# Altium footprint library QFP.PcbLib: 4 footprints
Each footprint in its own frame and in the unit in brackets; x right, y up, seen from the top. Pads: shape width x height; smd on the part's side, far side on the other; paste and mask are expansions set on the pad; w line width, h text height; cw(c..) or ccw(c..) is an arc to the next point about the centre after c.
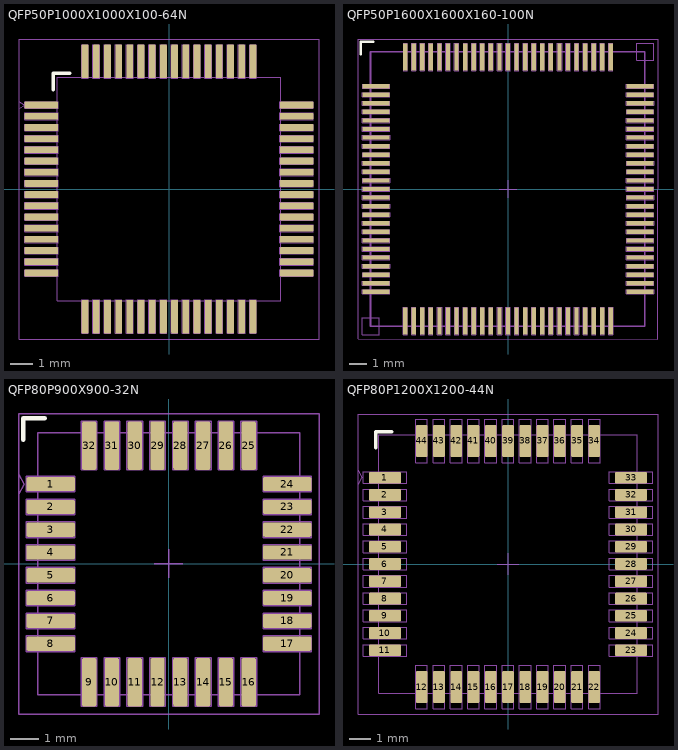
[diagram p0: the footprints below, top view; thin cyan lines are the x and y axes]

## QFP50P1000X1000X100-64N [mm]
height 1.2
pads (64):
  rrect25% 1.5x0.3 smd paste+0 mask+0.05: 1(-5.7,3.75) 2(-5.7,3.25) 3(-5.7,2.75) 4(-5.7,2.25) 5(-5.7,1.75) 6(-5.7,1.25) 7(-5.7,0.75) 8(-5.7,0.25) 9(-5.7,-0.25) 10(-5.7,-0.75) 11(-5.7,-1.25) 12(-5.7,-1.75) 13(-5.7,-2.25) 14(-5.7,-2.75) 15(-5.7,-3.25) 16(-5.7,-3.75) 33(5.7,-3.75) 34(5.7,-3.25) 35(5.7,-2.75) 36(5.7,-2.25) 37(5.7,-1.75) 38(5.7,-1.25) 39(5.7,-0.75) 40(5.7,-0.25) 41(5.7,0.25) 42(5.7,0.75) 43(5.7,1.25) 44(5.7,1.75) 45(5.7,2.25) 46(5.7,2.75) 47(5.7,3.25) 48(5.7,3.75)
  rrect25% 0.3x1.5 smd paste+0 mask+0.05: 17(-3.75,-5.7) 18(-3.25,-5.7) 19(-2.75,-5.7) 20(-2.25,-5.7) 21(-1.75,-5.7) 22(-1.25,-5.7) 23(-0.75,-5.7) 24(-0.25,-5.7) 25(0.25,-5.7) 26(0.75,-5.7) 27(1.25,-5.7) 28(1.75,-5.7) 29(2.25,-5.7) 30(2.75,-5.7) 31(3.25,-5.7) 32(3.75,-5.7) 49(3.75,5.7) 50(3.25,5.7) 51(2.75,5.7) 52(2.25,5.7) 53(1.75,5.7) 54(1.25,5.7) 55(0.75,5.7) 56(0.25,5.7) 57(-0.25,5.7) 58(-0.75,5.7) 59(-1.25,5.7) 60(-1.75,5.7) 61(-2.25,5.7) 62(-2.75,5.7) 63(-3.25,5.7) 64(-3.75,5.7)
Top Overlay:
  lines w0.152: -5.175,4.425 -5.175,5.175 -4.425,5.175
Top Courtyard:
  lines w0.05: -6.7,3.6 -6.45,3.75 -6.7,3.9 ; -6.7,-6.7 -6.7,6.7 6.7,6.7 6.7,-6.7 -6.7,-6.7
Top Assembly:
  drawing of 260 lines, arcs and shapes, not listed
  text "1" at -6.45,3.6 h0.3
3D body "User Library-S-PQFP-G64.step": height 1, standoff 0, extent -5.787,-5.79 5.787,5.791

## QFP50P1600X1600X160-100N [mm] "QFP50P1600X1600X160 100N"
height 1.6
pads (100):
  rrect25% 1.6x0.249 smd mask+0.075: 1(-7.7,6) 2(-7.7,5.5) 3(-7.7,5) 4(-7.7,4.5) 5(-7.7,4) 6(-7.7,3.5) 7(-7.7,3) 8(-7.7,2.5) 9(-7.7,2) 10(-7.7,1.5) 11(-7.7,1) 12(-7.7,0.5) 13(-7.7,0) 14(-7.7,-0.5) 15(-7.7,-1) 16(-7.7,-1.5) 17(-7.7,-2) 18(-7.7,-2.5) 19(-7.7,-3) 20(-7.7,-3.5) 21(-7.7,-4) 22(-7.7,-4.5) 23(-7.7,-5) 24(-7.7,-5.5) 25(-7.7,-6) 51(7.7,-6) 52(7.7,-5.5) 53(7.7,-5) 54(7.7,-4.5) 55(7.7,-4) 56(7.7,-3.5) 57(7.7,-3) 58(7.7,-2.5) 59(7.7,-2) 60(7.7,-1.5) 61(7.7,-1) 62(7.7,-0.5) 63(7.7,0) 64(7.7,0.5) 65(7.7,1) 66(7.7,1.5) 67(7.7,2) 68(7.7,2.5) 69(7.7,3) 70(7.7,3.5) 71(7.7,4) 72(7.7,4.5) 73(7.7,5) 74(7.7,5.5) 75(7.7,6)
  rrect25% 0.249x1.6 smd mask+0.075: 26(-6,-7.7) 27(-5.5,-7.7) 28(-5,-7.7) 29(-4.5,-7.7) 30(-4,-7.7) 31(-3.5,-7.7) 32(-3,-7.7) 33(-2.5,-7.7) 34(-2,-7.7) 35(-1.5,-7.7) 36(-1,-7.7) 37(-0.5,-7.7) 38(0,-7.7) 39(0.5,-7.7) 40(1,-7.7) 41(1.5,-7.7) 42(2,-7.7) 43(2.5,-7.7) 44(3,-7.7) 45(3.5,-7.7) 46(4,-7.7) 47(4.5,-7.7) 48(5,-7.7) 49(5.5,-7.7) 50(6,-7.7) 76(6,7.7) 77(5.5,7.7) 78(5,7.7) 79(4.5,7.7) 80(4,7.7) 81(3.5,7.7) 82(3,7.7) 83(2.5,7.7) 84(2,7.7) 85(1.5,7.7) 86(1,7.7) 87(0.5,7.7) 88(0,7.7) 89(-0.5,7.7) 90(-1,7.7) 91(-1.5,7.7) 92(-2,7.7) 93(-2.5,7.7) 94(-3,7.7) 95(-3.5,7.7) 96(-4,7.7) 97(-4.5,7.7) 98(-5,7.7) 99(-5.5,7.7) 100(-6,7.7)
Top Overlay:
  lines w0.152: -8.6,7.85 -8.6,8.6 -7.85,8.6
Top Courtyard:
  lines w0.05: -0.5,0 0,0 ; 0,-0.5 0,0 ; 0,0.5 0,0 ; 0.5,0 0,0 ; -8.75,-8.75 8.75,-8.75 8.75,8.75 -8.75,8.75 -8.75,-8.75
Top Assembly:
  drawing of 412 lines, arcs and shapes, not listed
  text "1" at -8.469,5.876 h0.3
3D body "User Library-LQFP100_Grid_0_5.STEP": height 1.6, standoff 0, extent -8.025,-8 7.975,8

## QFP80P900X900-32N [mm] "TQFP80P900X900 32N"
height 1.2
pads (32):
  rrect25% 1.7x0.5 smd mask+0.075: 1(-4.139,2.791) 2(-4.139,1.991) 3(-4.139,1.191) 4(-4.139,0.391) 5(-4.139,-0.409) 6(-4.139,-1.209) 7(-4.139,-2.009) 8(-4.139,-2.809) 17(4.161,-2.809) 18(4.161,-2.009) 19(4.161,-1.209) 20(4.161,-0.409) 21(4.161,0.391) 22(4.161,1.191) 23(4.161,1.991) 24(4.161,2.791)
  rrect25% 0.5x1.7 smd mask+0.075: 9(-2.789,-4.159) 10(-1.989,-4.159) 11(-1.189,-4.159) 12(-0.389,-4.159) 13(0.411,-4.159) 14(1.211,-4.159) 15(2.011,-4.159) 16(2.811,-4.159) 25(2.811,4.141) 26(2.011,4.141) 27(1.211,4.141) 28(0.411,4.141) 29(-0.389,4.141) 30(-1.189,4.141) 31(-1.989,4.141) 32(-2.789,4.141)
Top Overlay:
  lines w0.15: -5.1,4.35 -5.1,5.1 -4.35,5.1
Top Courtyard:
  lines w0.05: -5.25,2.441 -5.064,2.791 -5.25,3.141 ; -0.5,0 0,0 ; 0,-0.5 0,0 ; 0,0.5 0,0 ; 0.5,0 0,0 ; -5.25,-5.275 5.275,-5.275 5.275,5.25 -5.25,5.25 -5.25,-5.275
Top Assembly:
  lines w0.05: -4.989,-3.084 -3.289,-3.084 -3.289,-2.534 -4.989,-2.534 -4.989,-3.084 ; -4.989,-2.284 -3.289,-2.284 -3.289,-1.734 -4.989,-1.734 -4.989,-2.284 ; -4.989,-1.484 -3.289,-1.484 -3.289,-0.934 -4.989,-0.934 -4.989,-1.484 ; -4.989,-0.684 -3.289,-0.684 -3.289,-0.134 -4.989,-0.134 -4.989,-0.684 ; -4.989,0.116 -3.289,0.116 -3.289,0.666 -4.989,0.666 -4.989,0.116 ; -4.989,0.916 -3.289,0.916 -3.289,1.466 -4.989,1.466 -4.989,0.916 ; -4.989,1.716 -3.289,1.716 -3.289,2.266 -4.989,2.266 -4.989,1.716 ; -4.989,2.516 -3.289,2.516 -3.289,3.066 -4.989,3.066 -4.989,2.516 ; -4.599,-4.6 4.599,-4.6 4.599,4.599 -4.599,4.599 -4.599,-4.6 ; -3.064,-5.009 -2.514,-5.009 -2.514,-3.309 -3.064,-3.309 -3.064,-5.009 ; -3.064,3.291 -2.514,3.291 -2.514,4.991 -3.064,4.991 -3.064,3.291 ; -2.264,-5.009 -1.714,-5.009 -1.714,-3.309 -2.264,-3.309 -2.264,-5.009 ; -2.264,3.291 -1.714,3.291 -1.714,4.991 -2.264,4.991 -2.264,3.291 ; -1.464,-5.009 -0.914,-5.009 -0.914,-3.309 -1.464,-3.309 -1.464,-5.009 ; -1.464,3.291 -0.914,3.291 -0.914,4.991 -1.464,4.991 -1.464,3.291 ; -0.664,-5.009 -0.114,-5.009 -0.114,-3.309 -0.664,-3.309 -0.664,-5.009 ; -0.664,3.291 -0.114,3.291 -0.114,4.991 -0.664,4.991 -0.664,3.291 ; 0.136,-5.009 0.686,-5.009 0.686,-3.309 0.136,-3.309 0.136,-5.009 ; 0.136,3.291 0.686,3.291 0.686,4.991 0.136,4.991 0.136,3.291 ; 0.936,-5.009 1.486,-5.009 1.486,-3.309 0.936,-3.309 0.936,-5.009 ; 0.936,3.291 1.486,3.291 1.486,4.991 0.936,4.991 0.936,3.291 ; 1.736,-5.009 2.286,-5.009 2.286,-3.309 1.736,-3.309 1.736,-5.009 ; 1.736,3.291 2.286,3.291 2.286,4.991 1.736,4.991 1.736,3.291 ; 2.536,-5.009 3.086,-5.009 3.086,-3.309 2.536,-3.309 2.536,-5.009 ; 2.536,3.291 3.086,3.291 3.086,4.991 2.536,4.991 2.536,3.291 ; 3.311,-3.084 5.011,-3.084 5.011,-2.534 3.311,-2.534 3.311,-3.084 ; 3.311,-2.284 5.011,-2.284 5.011,-1.734 3.311,-1.734 3.311,-2.284 ; 3.311,-1.484 5.011,-1.484 5.011,-0.934 3.311,-0.934 3.311,-1.484 ; 3.311,-0.684 5.011,-0.684 5.011,-0.134 3.311,-0.134 3.311,-0.684 ; 3.311,0.116 5.011,0.116 5.011,0.666 3.311,0.666 3.311,0.116 ; 3.311,0.916 5.011,0.916 5.011,1.466 3.311,1.466 3.311,0.916 ; 3.311,1.716 5.011,1.716 5.011,2.266 3.311,2.266 3.311,1.716 ; 3.311,2.516 5.011,2.516 5.011,3.066 3.311,3.066 3.311,2.516
3D body "User Library-tqfp32.step": height 1.2, standoff 0, extent -4.599,-4.6 4.599,4.599

## QFP80P1200X1200-44N [mm] "TQFP80P1200X1200 44N"
height 1.1
pads (44):
  rrect25% 1.5x0.54 smd mask+0.075: 1(-5.7,4) 2(-5.7,3.2) 3(-5.7,2.4) 4(-5.7,1.6) 5(-5.7,0.8) 6(-5.7,0) 7(-5.7,-0.8) 8(-5.7,-1.6) 9(-5.7,-2.4) 10(-5.7,-3.2) 11(-5.7,-4) 23(5.7,-4) 24(5.7,-3.2) 25(5.7,-2.4) 26(5.7,-1.6) 27(5.7,-0.8) 28(5.7,0) 29(5.7,0.8) 30(5.7,1.6) 31(5.7,2.4) 32(5.7,3.2) 33(5.7,4)
  rrect25% 0.54x1.5 smd mask+0.075: 12(-4,-5.7) 13(-3.2,-5.7) 14(-2.4,-5.7) 15(-1.6,-5.7) 16(-0.8,-5.7) 17(0,-5.7) 18(0.8,-5.7) 19(1.6,-5.7) 20(2.4,-5.7) 21(3.2,-5.7) 22(4,-5.7) 34(4,5.7) 35(3.2,5.7) 36(2.4,5.7) 37(1.6,5.7) 38(0.8,5.7) 39(0,5.7) 40(-0.8,5.7) 41(-1.6,5.7) 42(-2.4,5.7) 43(-3.2,5.7) 44(-4,5.7)
Top Overlay:
  lines w0.152: -6.125,5.375 -6.125,6.125 -5.375,6.125
Top Courtyard:
  lines w0.05: -6.95,3.655 -6.775,4 -6.95,4.345 ; -0.5,0 0,0 ; 0,-0.5 0,0 ; 0,0.5 0,0 ; 0.5,0 0,0 ; -6.95,-6.95 6.95,-6.95 6.95,6.95 -6.95,6.95 -6.95,-6.95
Top Assembly:
  drawing of 180 lines, arcs and shapes, not listed
  text "1" at -6.7,3.73 h0.3
3D body "User Library-TQFP-44-1.STEP": height 1.1, standoff 0, extent -6,-6 6,6